# Altium integrated library 麒麟F407开发板封装库.IntLib: 55 symbols
Pins are listed as number, name and electrical type; pins without a type are passive.

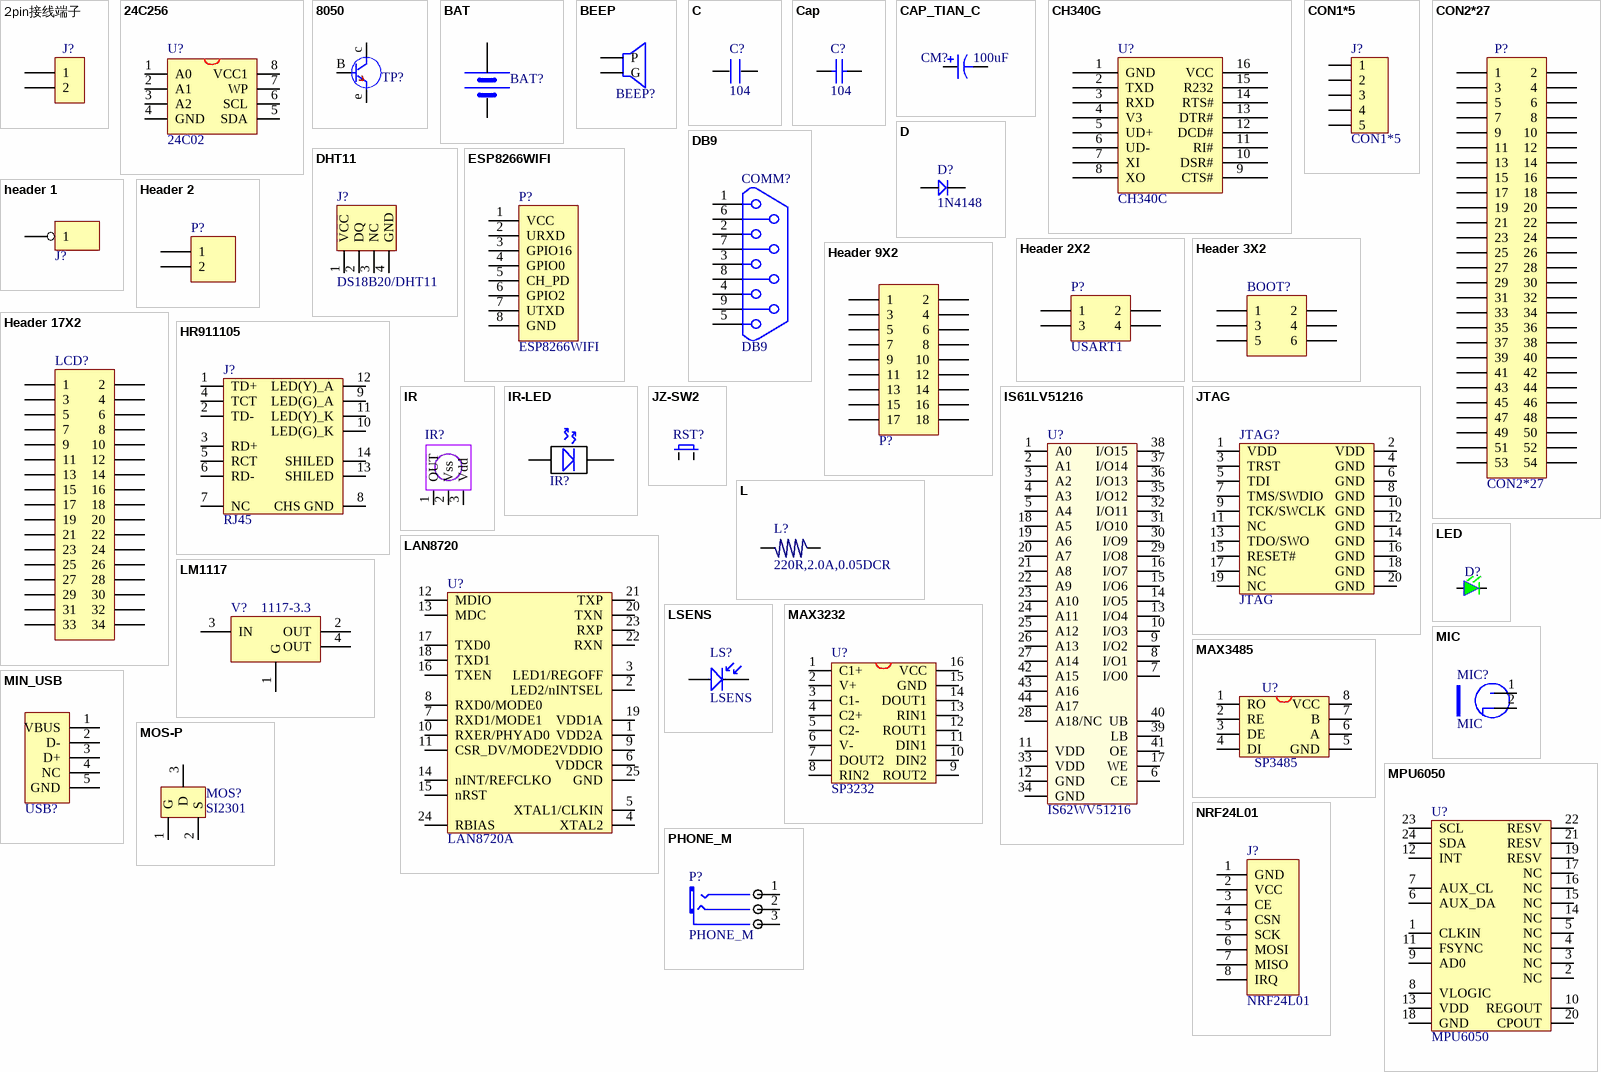
[diagram p0: symbols 2pin接线端子 to PHONE_M]

## 2pin接线端子
designator J?, comment SIP2  (value not drawn)
footprint SIP2
footprint SIP2
pins: 1, 2

## 24C256
designator U?, comment 24C02
EEPROM
footprint SOP-8 (SSOP8)
footprint TSSOP8 (Shrink Small Outline, MSOP; 8 Leads; Body Width 3 mm; Pitch 0.65 mm)
footprint SO-8
pins: 1 A0, 2 A1, 3 A2, 4 GND, 5 SDA, 6 SCL, 7 WP, 8 VCC1

## 8050
designator TP?, comment 2TY  (value not drawn)
footprint NPN-2TY
footprint NPN-2TY
pins: B b, c, e

## BAT
designator BAT?, comment BATT  (value not drawn)
footprint BAT (电池座)
footprint BAT (电池座)
footprint BAT (电池座)
footprint BAT (电池座)
footprint BAT大电池
footprint BAT(小电池)
footprint BT2 (电池)
footprint BT2
pins: 1 VCC, 2 GND

## BEEP
designator BEEP?  (value not drawn)
3.3V有源蜂鸣器
footprint BEEP
footprint BELL-5
pins: 1 P, 2 G

## C
designator C?, comment 104
footprint 0603P
footprint 0805
footprint CC5.08 (CAP0.1)
footprint CC4.572 (222/332)
footprint 1206
footprint 1210
footprint CC6.096
footprint CC7.62
footprint CVAR (4MM*6.6MM)
footprint 0402
footprint 0603
pins: 1, 2

## Cap
designator C?, comment 104
Capacitor
simulation model CAP (Capacitor)
signal-integrity model Cap
footprint 0603
pins: 1, 2

## CAP_TIAN_C
designator CM?, comment 100uF
footprint CC6 (铝制电容贴片)
pins: 1, 2

## CH340G
designator U?, comment CH340C
footprint SOP-16
pins: 1 GND, 2 TXD, 3 RXD, 4 V3, 5 UD+, 6 UD-, 7 XI, 8 XO, 9 CTS#, 10 DSR#, 11 RI#, 12 DCD#, 13 DTR#, 14 RTS#, 15 R232, 16 VCC

## CON1*5
designator J?
footprint SIP1*5
pins: 1, 2, 3, 4, 5

## CON2*27
designator P?
footprint CON2*27-2.54mm
pins: 1, 2, 3, 4, 5, 6, 7, 8, 9, 10, 11, 12, 13, 14, 15, 16, 17, 18, 19, 20, 21, 22, 23, 24, 25, 26, 27, 28, 29, 30, 31, 32, 33, 34, 35, 36, 37, 38, 39, 40, 41, 42, 43, 44, 45, 46, 47, 48, 49, 50, 51, 52, 53, 54

## D
designator D?, comment 1N4148
footprint SOD-123
footprint DIODE_SOP (4148)
footprint DIODE-L (6A10)
footprint DIODE-M (1N5822)
footprint DIODE_S (1N4007)
footprint DIODE_3*5.3 (ME:SS14/SS24;L:5.3mm;W:3mm;)
footprint DIODE_4*5.6 (ME:RS2J.L:5.6mm;W:4mm)
footprint DIODE_6.2*8.13 (ME:RS2J.L:8.13mm;W:6.2mm)
pins: 1, 2

## DB9
designator COMM?
footprint DB9
footprint DB9 (DB9母针)
pins: 1, 2, 3, 4, 5, 6, 7, 8, 9
2 alternate drawings of the same symbol

## DHT11
designator J?, comment DS18B20/DHT11
数字温湿度传感器
footprint DHT11 (2.54mm)
pins: 1 VCC, 2 DQ, 3 NC, 4 GND

## ESP8266WIFI
designator P?
footprint HDR2X4 (Connector; Header; 4x2 Position)
footprint HDR2X4
pins: 1 VCC, 2 URXD, 3 GPIO16, 4 GPIO0, 5 CH_PD, 6 GPIO2, 7 UTXD, 8 GND

## header 1
designator J?, comment SIP1  (value not drawn)
footprint SIP1
pins: 1

## Header 2
designator P?, comment RS485接线端子  (value not drawn)
Header, 2-Pin
footprint DG/KF301 (接线端子)
signal-integrity model Connector
footprint 纽扣端子
footprint 纽扣端子
footprint DG/KF301 (接线端子)
pins: 1, 2

## Header 2X2
designator P?, comment USART1
Header, 2-Pin, Dual row; LatestRevisionDate: 17-Jul-2002; LatestRevisionNote: Re-released for DXP Platform.; Publisher: Altium Limited
footprint HDR2X2 (Connector; Header; 2x2 Position)
pins: 1, 2, 3, 4

## Header 3X2
designator BOOT?, comment SIP 3X2  (value not drawn)
Header, 3-Pin, Dual row; LatestRevisionDate: 17-Jul-2002; LatestRevisionNote: Re-released for DXP Platform.; Publisher: Altium Limited
footprint HDR2X3 (Connector; Header; 3x2 Position)
signal-integrity model Connector
footprint HDR2X3
footprint HDX2*3
footprint HDR2X3
pins: 1, 2, 3, 4, 5, 6

## Header 9X2
designator P?, comment P?  (value not drawn)
Header, 9-Pin, Dual row; LatestRevisionDate: 17-Jul-2002; LatestRevisionNote: Re-released for DXP Platform.; Publisher: Altium Limited
footprint HDR2X9 (Connector; Header; 9x2 Position)
footprint HDR2X9
pins: 1, 2, 3, 4, 5, 6, 7, 8, 9, 10, 11, 12, 13, 14, 15, 16, 17, 18

## Header 17X2
designator LCD?  (value not drawn)
Header, 17-Pin, Dual row; LatestRevisionDate: 17-Jul-2002; LatestRevisionNote: Re-released for DXP Platform.; Publisher: Altium Limited
footprint HDR2X17 (Connector; Header; 17x2 Position)
signal-integrity model Connector
footprint HDR2*17
footprint HDR2*17
pins: 1, 2, 3, 4, 5, 6, 7, 8, 9, 10, 11, 12, 13, 14, 15, 16, 17, 18, 19, 20, 21, 22, 23, 24, 25, 26, 27, 28, 29, 30, 31, 32, 33, 34

## HR911105
designator J?, comment RJ45
footprint HR911105A (NET_WORK)
pins: 1 TD+, 2 TD-, 3 RD+, 4 TCT, 5 RCT, 6 RD-, 7 NC, 8 CHS GND, 9 LED(G)_A, 10 LED(G)_K, 11 LED(Y)_K, 12 LED(Y)_A, 13 SHILED, 14 SHILED

## IR
designator IR?, comment 红外接收头  (value not drawn)
footprint IR1
pins: 1 OUT, 2 Vss, 3 Vdd

## IR-LED
designator IR?  (value not drawn)
1206红外发射管（侧）
footprint IR-LED
footprint SIP2
pins: 1, 2

## IS61LV51216
designator U?, comment IS62WV51216
footprint TSOP44
pins: 1 A0, 2 A1, 3 A2, 4 A3, 5 A4, 6 CE, 7 I/O0, 8 I/O1, 9 I/O2, 10 I/O3, 11 VDD, 12 GND, 13 I/O4, 14 I/O5, 15 I/O6, 16 I/O7, 17 WE, 18 A5, 19 A6, 20 A7, 21 A8, 22 A9, 23 A10, 24 A11, 25 A12, 26 A13, 27 A14, 28 A18/NC, 29 I/O8, 30 I/O9, 31 I/O10, 32 I/O11, 33 VDD, 34 GND, 35 I/O12, 36 I/O13, 37 I/O14, 38 I/O15, 39 LB, 40 UB, 41 OE, 42 A15, 43 A16, 44 A17

## JTAG
designator JTAG?
footprint JTAG (ULINK_JTAG-20)
footprint JTAG_20 (JTAG,20PIN)
footprint JTAG_20
footprint JTAG_20
footprint JTAG_20
pins: 1 VDD, 2 VDD, 3 TRST, 4 GND, 5 TDI, 6 GND, 7 TMS/SWDIO, 8 GND, 9 TCK/SWCLK, 10 GND, 11 NC, 12 GND, 13 TDO/SWO, 14 GND, 15 RESET#, 16 GND, 17 NC, 18 GND, 19 NC, 20 GND

## JZ-SW2
designator RST?, comment 按键  (value not drawn)
footprint JZ-SW2
pins: 1, 2

## L
designator L?, comment 220R,2.0A,0.05DCR
footprint L3A (L)
footprint L4.7
footprint L_USER (SELF_DEF)
footprint L10 (10mH)
footprint SMD7850
footprint 0805
footprint 1206
footprint L_SOPL (L_LARGE)
footprint L_CD43 (4mm*4mm)
footprint 0603P
footprint L_SOP4 (4mm*4mm*1.7mm)
pins: 1, 2

## LAN8720
designator U?, comment LAN8720A
ETH PHY
footprint QFN24 (QFN, 24-Leads, Body 4.0x4.0mm (max), Pitch 0.50mm, IPC Medium Density)
footprint QFN24
footprint QFN24
footprint QFN25
footprint QFN25
pins: 1 VDD2A, 2 LED2/nINTSEL, 3 LED1/REGOFF, 4 XTAL2, 5 XTAL1/CLKIN, 6 VDDCR, 7 RXD1/MODE1, 8 RXD0/MODE0, 9 VDDIO, 10 RXER/PHYAD0, 11 CSR_DV/MODE2, 12 MDIO, 13 MDC, 14 nINT/REFCLKO, 15 nRST, 16 TXEN, 17 TXD0, 18 TXD1, 19 VDD1A, 20 TXN, 21 TXP, 22 RXN, 23 RXP, 24 RBIAS, 25 GND

## LED
designator D?, comment LED蓝  (value not drawn)
footprint LED0603
footprint LED0603
pins: A a, K k

## LM1117
designator V?, comment 1117-3.3
LINER REG
footprint SOT261
footprint AMS1117
footprint SOT261
pins: 1 G, 2 OUT, 3 IN, 4 OUT
2 alternate drawings of the same symbol

## LSENS
designator LS?
LIGHT SENS
footprint SMDLED
footprint SIP2
pins: 1, 2

## MAX3232
designator U?, comment SP3232
footprint SOP16M (Small Outline; 16 Leads; Body Width 3.9 mm; Pitch 1.27 mm)
footprint SOP16M
pins: 1 C1+, 2 V+, 3 C1-, 4 C2+, 5 C2-, 6 V-, 7 DOUT2, 8 RIN2, 9 ROUT2, 10 DIN2, 11 DIN1, 12 ROUT1, 13 RIN1, 14 DOUT1, 15 GND, 16 VCC

## MAX3485
designator U?, comment SP3485
footprint SO-8
pins: 1 RO, 2 RE, 3 DE, 4 DI, 5 GND, 6 A, 7 B, 8 VCC

## MIC
designator MIC?
footprint MIC
footprint MIC
footprint MIC
footprint MIC-6022
pins: 1 VCC, 2 GND
1 alternate drawing of the same symbol

## MIN_USB
designator USB?  (value not drawn)
footprint MiniUSB
footprint MiniUSB
footprint MiniUSB
footprint MiniUSB
footprint min_usb
footprint MiniUSB
footprint MINI_USB
footprint MiniUSB
footprint MINIUSB_5PIN_4Pad_New
pins: 1 VBUS, 2 D-, 3 D+, 4 NC, 5 GND

## MOS-P
designator MOS?, comment SI2301
IRLML6401/SI2301
footprint SO-G3/C2.5 (SOT-23; 3 Leads; Body 3.0 x 2.6 mm, inc. leads (LxW max))
pins: 1 G, 2 S, 3 D

## MPU6050
designator U?
9轴运动处理传感器
footprint QFN24 (QFN, 24-Leads, Body 4.0x4.0mm (max), Pitch 0.50mm, IPC Medium Density)
footprint QFN24
pins: 1 CLKIN, 2 NC, 3 NC, 4 NC, 5 NC, 6 AUX_DA, 7 AUX_CL, 8 VLOGIC, 9 AD0, 10 REGOUT, 11 FSYNC, 12 INT, 13 VDD, 14 NC, 15 NC, 16 NC, 17 NC, 18 GND, 19 RESV, 20 CPOUT, 21 RESV, 22 RESV, 23 SCL, 24 SDA

## NRF24L01
designator J?
footprint HDR2X4 (Connector; Header; 4x2 Position)
footprint NRF24L01
footprint NRF24L01
footprint NRF24L01
footprint CON2*4
pins: 1 GND, 2 VCC, 3 CE, 4 CSN, 5 SCK, 6 MOSI, 7 MISO, 8 IRQ

## PHONE_M
designator P?
footprint PHONE_ST
footprint PHONE-D
footprint PHONE-D
footprint PHONE_ST
pins: 1 CHL, 2 CHR, 3 COM

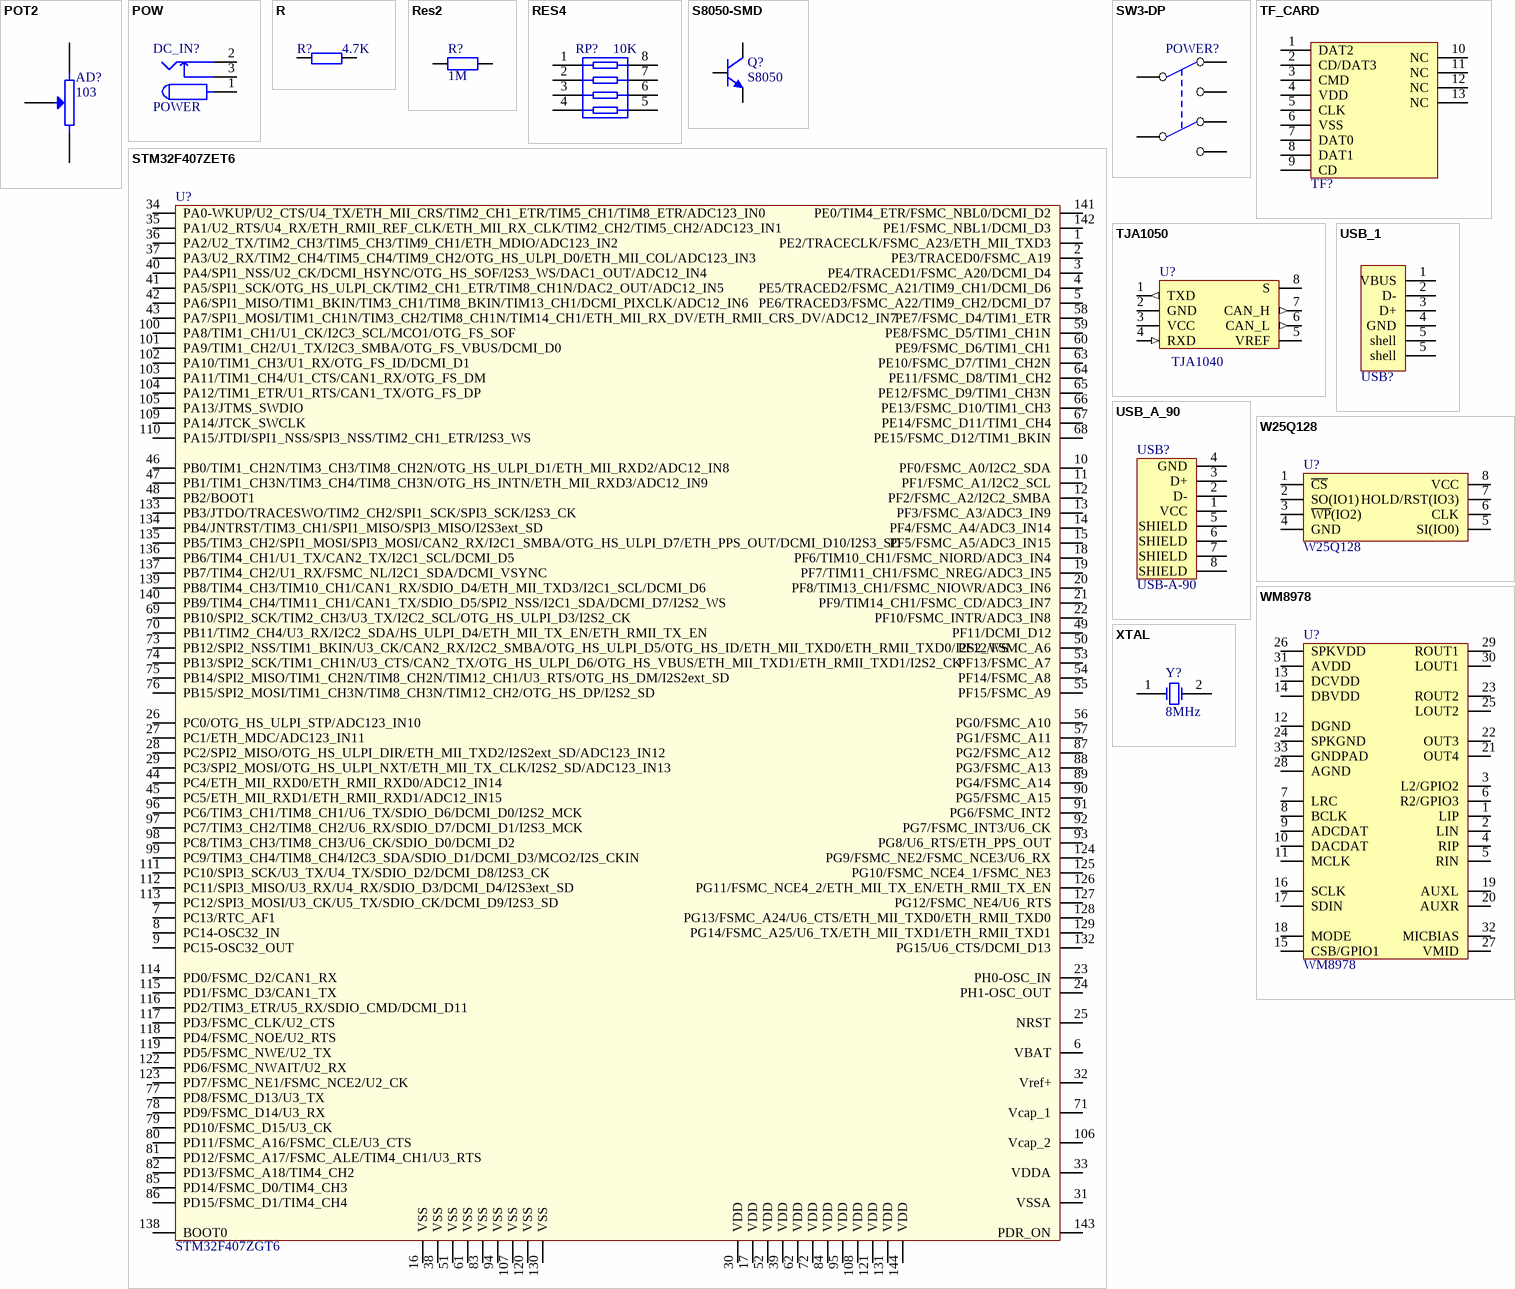
[diagram p1: symbols POT2 to XTAL]

## POT2
designator AD?, comment 103
Potentiometer
footprint WR2
footprint WR2
pins: 1, 2, 3 W

## POW
designator DC_IN?, comment POWER
footprint POWER (DC_IN)
footprint DC10B
footprint Model Name (Footprint not found)
footprint DC10B
footprint DC
pins: 1, 2, 3

## R
designator R?, comment 4.7K
footprint 0805
footprint 0603P
footprint RL (10o/0.7uH)
footprint R16.0 (RX/1W)
footprint 1206
footprint 1210
footprint R20.0 (RX/2W)
footprint R10.16 (STD)
footprint RLN9 (13.5mm*5.1mm)
footprint 0402
footprint 0603
pins: 1, 2

## Res2
designator R?, comment 1M
Resistor
simulation model RESISTOR (Resistor)
signal-integrity model Res
footprint 0603
pins: 1, 2

## RES4
designator RP?, comment 10K
footprint 0603-4
pins: 1, 2, 3, 4, 5, 6, 7, 8

## S8050-SMD
designator Q?, comment S8050
footprint SOT-23-3
footprint NPN-2TY
footprint SOT-23R
footprint SOT-23R
footprint SOT-23NP
pins: 1, 2, 3

## STM32F407ZET6
designator U?, comment STM32F407ZGT6
STM32F407ZET6
footprint LQFP144
pins: 1 PE2/TRACECLK/FSMC_A23/ETH_MII_TXD3, 2 PE3/TRACED0/FSMC_A19, 3 PE4/TRACED1/FSMC_A20/DCMI_D4, 4 PE5/TRACED2/FSMC_A21/TIM9_CH1/DCMI_D6, 5 PE6/TRACED3/FSMC_A22/TIM9_CH2/DCMI_D7, 6 VBAT, 7 PC13/RTC_AF1, 8 PC14-OSC32_IN, 9 PC15-OSC32_OUT, 10 PF0/FSMC_A0/I2C2_SDA, 11 PF1/FSMC_A1/I2C2_SCL, 12 PF2/FSMC_A2/I2C2_SMBA, 13 PF3/FSMC_A3/ADC3_IN9, 14 PF4/FSMC_A4/ADC3_IN14, 15 PF5/FSMC_A5/ADC3_IN15, 16 VSS, 17 VDD, 18 PF6/TIM10_CH1/FSMC_NIORD/ADC3_IN4, 19 PF7/TIM11_CH1/FSMC_NREG/ADC3_IN5, 20 PF8/TIM13_CH1/FSMC_NIOWR/ADC3_IN6, 21 PF9/TIM14_CH1/FSMC_CD/ADC3_IN7, 22 PF10/FSMC_INTR/ADC3_IN8, 23 PH0-OSC_IN, 24 PH1-OSC_OUT, 25 NRST, 26 PC0/OTG_HS_ULPI_STP/ADC123_IN10, 27 PC1/ETH_MDC/ADC123_IN11, 28 PC2/SPI2_MISO/OTG_HS_ULPI_DIR/ETH_MII_TXD2/I2S2ext_SD/ADC123_IN12, 29 PC3/SPI2_MOSI/OTG_HS_ULPI_NXT/ETH_MII_TX_CLK/I2S2_SD/ADC123_IN13, 30 VDD, 31 VSSA, 32 Vref+, 33 VDDA, 34 PA0-WKUP/U2_CTS/U4_TX/ETH_MII_CRS/TIM2_CH1_ETR/TIM5_CH1/TIM8_ETR/ADC123_IN0, 35 PA1/U2_RTS/U4_RX/ETH_RMII_REF_CLK/ETH_MII_RX_CLK/TIM2_CH2/TIM5_CH2/ADC123_IN1, 36 PA2/U2_TX/TIM2_CH3/TIM5_CH3/TIM9_CH1/ETH_MDIO/ADC123_IN2, 37 PA3/U2_RX/TIM2_CH4/TIM5_CH4/TIM9_CH2/OTG_HS_ULPI_D0/ETH_MII_COL/ADC123_IN3, 38 VSS, 39 VDD, 40 PA4/SPI1_NSS/U2_CK/DCMI_HSYNC/OTG_HS_SOF/I2S3_WS/DAC1_OUT/ADC12_IN4, 41 PA5/SPI1_SCK/OTG_HS_ULPI_CK/TIM2_CH1_ETR/TIM8_CH1N/DAC2_OUT/ADC12_IN5, 42 PA6/SPI1_MISO/TIM1_BKIN/TIM3_CH1/TIM8_BKIN/TIM13_CH1/DCMI_PIXCLK/ADC12_IN6, 43 PA7/SPI1_MOSI/TIM1_CH1N/TIM3_CH2/TIM8_CH1N/TIM14_CH1/ETH_MII_RX_DV/ETH_RMII_CRS_DV/ADC12_IN7, 44 PC4/ETH_MII_RXD0/ETH_RMII_RXD0/ADC12_IN14, 45 PC5/ETH_MII_RXD1/ETH_RMII_RXD1/ADC12_IN15, 46 PB0/TIM1_CH2N/TIM3_CH3/TIM8_CH2N/OTG_HS_ULPI_D1/ETH_MII_RXD2/ADC12_IN8, 47 PB1/TIM1_CH3N/TIM3_CH4/TIM8_CH3N/OTG_HS_INTN/ETH_MII_RXD3/ADC12_IN9, 48 PB2/BOOT1, 49 PF11/DCMI_D12, 50 PF12/FSMC_A6, 51 VSS, 52 VDD, 53 PF13/FSMC_A7, 54 PF14/FSMC_A8, 55 PF15/FSMC_A9, 56 PG0/FSMC_A10, 57 PG1/FSMC_A11, 58 PE7/FSMC_D4/TIM1_ETR, 59 PE8/FSMC_D5/TIM1_CH1N, 60 PE9/FSMC_D6/TIM1_CH1, 61 VSS, 62 VDD, 63 PE10/FSMC_D7/TIM1_CH2N, 64 PE11/FSMC_D8/TIM1_CH2, 65 PE12/FSMC_D9/TIM1_CH3N, 66 PE13/FSMC_D10/TIM1_CH3, 67 PE14/FSMC_D11/TIM1_CH4, 68 PE15/FSMC_D12/TIM1_BKIN, 69 PB10/SPI2_SCK/TIM2_CH3/U3_TX/I2C2_SCL/OTG_HS_ULPI_D3/I2S2_CK, 70 PB11/TIM2_CH4/U3_RX/I2C2_SDA/HS_ULPI_D4/ETH_MII_TX_EN/ETH_RMII_TX_EN, 71 Vcap_1, 72 VDD, 73 PB12/SPI2_NSS/TIM1_BKIN/U3_CK/CAN2_RX/I2C2_SMBA/OTG_HS_ULPI_D5/OTG_HS_ID/ETH_MII_TXD0/ETH_RMII_TXD0/I2S2_WS, 74 PB13/SPI2_SCK/TIM1_CH1N/U3_CTS/CAN2_TX/OTG_HS_ULPI_D6/OTG_HS_VBUS/ETH_MII_TXD1/ETH_RMII_TXD1/I2S2_CK, 75 PB14/SPI2_MISO/TIM1_CH2N/TIM8_CH2N/TIM12_CH1/U3_RTS/OTG_HS_DM/I2S2ext_SD, 76 PB15/SPI2_MOSI/TIM1_CH3N/TIM8_CH3N/TIM12_CH2/OTG_HS_DP/I2S2_SD, 77 PD8/FSMC_D13/U3_TX, 78 PD9/FSMC_D14/U3_RX, 79 PD10/FSMC_D15/U3_CK, 80 PD11/FSMC_A16/FSMC_CLE/U3_CTS, 81 PD12/FSMC_A17/FSMC_ALE/TIM4_CH1/U3_RTS, 82 PD13/FSMC_A18/TIM4_CH2, 83 VSS, 84 VDD, 85 PD14/FSMC_D0/TIM4_CH3, 86 PD15/FSMC_D1/TIM4_CH4, 87 PG2/FSMC_A12, 88 PG3/FSMC_A13, 89 PG4/FSMC_A14, 90 PG5/FSMC_A15, 91 PG6/FSMC_INT2, 92 PG7/FSMC_INT3/U6_CK, 93 PG8/U6_RTS/ETH_PPS_OUT, 94 VSS, 95 VDD, 96 PC6/TIM3_CH1/TIM8_CH1/U6_TX/SDIO_D6/DCMI_D0/I2S2_MCK, 97 PC7/TIM3_CH2/TIM8_CH2/U6_RX/SDIO_D7/DCMI_D1/I2S3_MCK, 98 PC8/TIM3_CH3/TIM8_CH3/U6_CK/SDIO_D0/DCMI_D2, 99 PC9/TIM3_CH4/TIM8_CH4/I2C3_SDA/SDIO_D1/DCMI_D3/MCO2/I2S_CKIN, 100 PA8/TIM1_CH1/U1_CK/I2C3_SCL/MCO1/OTG_FS_SOF, 101 PA9/TIM1_CH2/U1_TX/I2C3_SMBA/OTG_FS_VBUS/DCMI_D0, 102 PA10/TIM1_CH3/U1_RX/OTG_FS_ID/DCMI_D1, 103 PA11/TIM1_CH4/U1_CTS/CAN1_RX/OTG_FS_DM, 104 PA12/TIM1_ETR/U1_RTS/CAN1_TX/OTG_FS_DP, 105 PA13/JTMS_SWDIO, 106 Vcap_2, 107 VSS, 108 VDD, 109 PA14/JTCK_SWCLK, 110 PA15/JTDI/SPI1_NSS/SPI3_NSS/TIM2_CH1_ETR/I2S3_WS, 111 PC10/SPI3_SCK/U3_TX/U4_TX/SDIO_D2/DCMI_D8/I2S3_CK, 112 PC11/SPI3_MISO/U3_RX/U4_RX/SDIO_D3/DCMI_D4/I2S3ext_SD, 113 PC12/SPI3_MOSI/U3_CK/U5_TX/SDIO_CK/DCMI_D9/I2S3_SD, 114 PD0/FSMC_D2/CAN1_RX, 115 PD1/FSMC_D3/CAN1_TX, 116 PD2/TIM3_ETR/U5_RX/SDIO_CMD/DCMI_D11, 117 PD3/FSMC_CLK/U2_CTS, 118 PD4/FSMC_NOE/U2_RTS, 119 PD5/FSMC_NWE/U2_TX, 120 VSS, 121 VDD, 122 PD6/FSMC_NWAIT/U2_RX, 123 PD7/FSMC_NE1/FSMC_NCE2/U2_CK, 124 PG9/FSMC_NE2/FSMC_NCE3/U6_RX, 125 PG10/FSMC_NCE4_1/FSMC_NE3, 126 PG11/FSMC_NCE4_2/ETH_MII_TX_EN/ETH_RMII_TX_EN, 127 PG12/FSMC_NE4/U6_RTS, 128 PG13/FSMC_A24/U6_CTS/ETH_MII_TXD0/ETH_RMII_TXD0, 129 PG14/FSMC_A25/U6_TX/ETH_MII_TXD1/ETH_RMII_TXD1, 130 VSS, 131 VDD, 132 PG15/U6_CTS/DCMI_D13, 133 PB3/JTDO/TRACESWO/TIM2_CH2/SPI1_SCK/SPI3_SCK/I2S3_CK, 134 PB4/JNTRST/TIM3_CH1/SPI1_MISO/SPI3_MISO/I2S3ext_SD, 135 PB5/TIM3_CH2/SPI1_MOSI/SPI3_MOSI/CAN2_RX/I2C1_SMBA/OTG_HS_ULPI_D7/ETH_PPS_OUT/DCMI_D10/I2S3_SD, 136 PB6/TIM4_CH1/U1_TX/CAN2_TX/I2C1_SCL/DCMI_D5, 137 PB7/TIM4_CH2/U1_RX/FSMC_NL/I2C1_SDA/DCMI_VSYNC, 138 BOOT0, 139 PB8/TIM4_CH3/TIM10_CH1/CAN1_RX/SDIO_D4/ETH_MII_TXD3/I2C1_SCL/DCMI_D6, 140 PB9/TIM4_CH4/TIM11_CH1/CAN1_TX/SDIO_D5/SPI2_NSS/I2C1_SDA/DCMI_D7/I2S2_WS, 141 PE0/TIM4_ETR/FSMC_NBL0/DCMI_D2, 142 PE1/FSMC_NBL1/DCMI_D3, 143 PDR_ON, 144 VDD

## SW3-DP
designator POWER?  (value not drawn)
footprint SW6
pins: 1 NC1, 2 COMMON1, 3 NO1, 4 NO2, 5 COMMON2, 6 NC2

## TF_CARD
designator TF?  (value not drawn)
footprint SD小卡
footprint TF_Card
pins: 1 DAT2, 2 CD/DAT3, 3 CMD, 4 VDD, 5 CLK, 6 VSS, 7 DAT0, 8 DAT1, 9 CD, 10 NC, 11 NC, 12 NC, 13 NC

## TJA1050
designator U?, comment TJA1040
footprint SO-8
pins: 1 TXD (out), 2 GND (power), 3 VCC (power), 4 RXD (in), 5 VREF (oc), 6 CAN_L (out), 7 CAN_H (out), 8 S (power)

## USB_1
designator USB?, comment USB2  (value not drawn)
footprint USB2; pin to pad 5>vss2
footprint MiniUSB
footprint MINI_USB
footprint MINIUSB_5PIN_4Pad_New
pins: 1 VBUS, 2 D-, 3 D+, 4 GND, 5 shell, 5 shell

## USB_A_90
designator USB?, comment USB-A-90
footprint USB-A-90
pins: 1 VCC, 2 D-, 3 D+, 4 GND, 5 SHIELD, 6 SHIELD, 7 SHIELD, 8 SHIELD

## W25Q128
designator U?
footprint SOIC-8 (SOIC)
footprint WSON8 (WSON8 8-Leads, Body 6.1x8.1mm (max), Pitch 1.27mm, IPC Medium Density)
footprint SOIC-8
pins: 1 ~{CS}, 2 SO(IO1), 3 ~{WP}(IO2), 4 GND, 5 SI(IO0) (power), 6 CLK, 7 HOLD/RST(IO3) (power), 8 VCC

## WM8978
designator U?
24bit ADC&DAC
footprint qfn32
pins: 1 LIP, 2 LIN, 3 L2/GPIO2, 4 RIP, 5 RIN, 6 R2/GPIO3, 7 LRC, 8 BCLK, 9 ADCDAT, 10 DACDAT, 11 MCLK, 12 DGND, 13 DCVDD, 14 DBVDD, 15 CSB/GPIO1, 16 SCLK, 17 SDIN, 18 MODE, 19 AUXL, 20 AUXR, 21 OUT4, 22 OUT3, 23 ROUT2, 24 SPKGND, 25 LOUT2, 26 SPKVDD, 27 VMID, 28 AGND, 29 ROUT1, 30 LOUT1, 31 AVDD, 32 MICBIAS, 33 GNDPAD

## XTAL
designator Y?, comment 8MHz
Crystal Oscillator; Published: 8-Jun-2000; LatestRevisionDate: 17-Jul-2002; LatestRevisionNote: Re-released for DXP Platform.; Publisher: Altium Limited
footprint XTAL_US
simulation model XTAL (Spice Subcircuit)
pins: 1 OSC1, 2 OSC2